# EAGLE library part 18D- (library Chips)
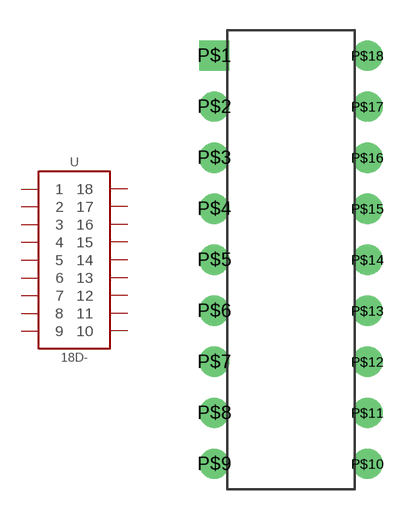
[diagram p4: symbol with the pads of 18DIP; footprint 18DIP]

Designator prefix U

## 18D-DIP  [18DIP]
P$1  1
P$2  2
P$3  3
P$4  4
P$5  5
P$6  6
P$7  7
P$8  8
P$9  9
P$10  10
P$11  11
P$12  12
P$13  13
P$14  14
P$15  15
P$16  16
P$17  17
P$18  18

## Footprint 18DIP (pad centres in mm)
drill 1 square: P$1 -3.81,10.16
drill 1: P$2 -3.81,7.62; P$3 -3.81,5.08; P$4 -3.81,2.54; P$5 -3.81,0; P$6 -3.81,-2.54; P$7 -3.81,-5.08; P$8 -3.81,-7.62; P$9 -3.81,-10.16; P$10 3.81,-10.16; P$11 3.81,-7.62; P$12 3.81,-5.08; P$13 3.81,-2.54; P$14 3.81,0; P$15 3.81,2.54; P$16 3.81,5.08; P$17 3.81,7.62; P$18 3.81,10.16